# Altium footprint library SSD1306_096_OLED.PcbLib: 1 footprints
Each footprint in its own frame and in the unit in brackets; x right, y up, seen from the top. Pads: shape width x height; smd on the part's side, far side on the other; paste and mask are expansions set on the pad; w line width, h text height; cw(c..) or ccw(c..) is an arc to the next point about the centre after c.
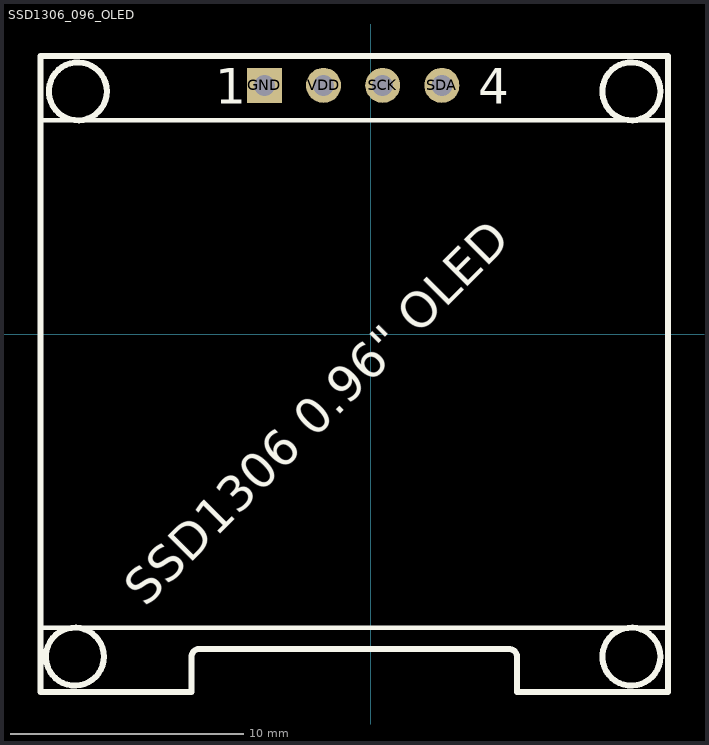
[diagram p0: the footprint, top view; thin cyan lines are the x and y axes]

## SSD1306_096_OLED [mm] "SSD1306 128x64 0.96\" OLED"
pads (4):
  rect 1.5x1.5 hole 0.9: GND(-4.572,10.668)
  round 1.5 hole 0.9: SCK(0.508,10.668) SDA(3.048,10.668) VDD(-2.032,10.668)
Top Overlay:
  circle w0.254: c11.176,-13.843 r1.245
  circle w0.254: c-12.7,-13.843 r1.245
  circle w0.254: c11.176,10.414 r1.245
  circle w0.254: c-12.573,10.414 r1.245
  lines w0.203: -14.199,9.169 12.725,9.169 ; -14.173,-12.598 12.751,-12.598
  lines w0.254: -7.7,-15.367 -7.7,-13.868 cw(c-7.341,-13.868) -7.315,-13.51 5.918,-13.51 ; -7.696,-15.367 -14.173,-15.367 -14.173,11.938 12.751,11.938 ; 5.918,-13.509 cw(c5.918,-13.868) 6.276,-13.894 ; 6.27,-15.367 6.27,-13.868 ; 6.274,-15.367 12.751,-15.367 12.751,11.862
  text "SSD1306 0.96\" OLED" at -9.652,-11.76 h1.52
  text "4" at 4.597,9.881 h1.52
  text "1" at -6.68,9.881 h1.52
3D body: height 1.27, standoff 0, extent -14.097,-6.096 12.7,9.017